# Altium footprint library 744045102.PcbLib: 1 footprints
Each footprint in its own frame and in the unit in brackets; x right, y up, seen from the top. Pads: shape width x height; smd on the part's side, far side on the other; paste and mask are expansions set on the pad; w line width, h text height; cw(c..) or ccw(c..) is an arc to the next point about the centre after c.
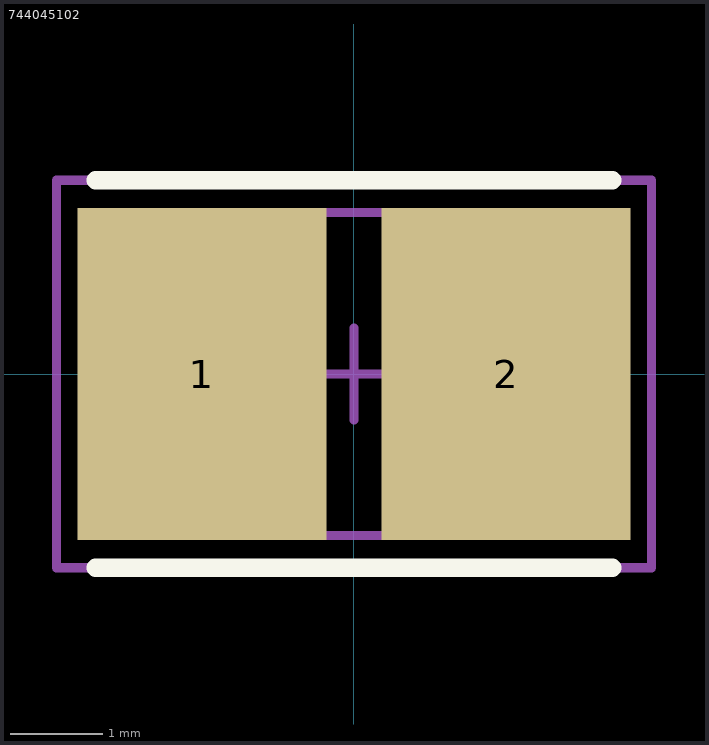
[diagram p0: the footprint, top view; thin cyan lines are the x and y axes]

## 744045102 [mm] "WUERTH ELEKTRONIK - 744045102 - INDUCTOR, 1812 CASE, 1000µH"
height 2.9
pads (2):
  rect 2.7x3.6 smd: 1(-1.65,0) 2(1.65,0)
Top Overlay:
  lines w0.2: -2.8,-2.1 2.8,-2.1 ; -2.8,2.1 2.8,2.1
Mechanical 13:
  lines w0.1: -2.4,-1.75 -2.4,1.75 2.4,1.75 2.4,-1.75 -2.4,-1.75
Mechanical 15:
  lines w0.1: -0.5,0 0.5,0 ; 0,-0.5 0,0.5 ; -3.225,-2.1 -3.225,2.1 3.225,2.1 3.225,-2.1 -3.225,-2.1
3D body: height 2.9, standoff 0, extent -2.4,-1.75 2.4,1.75